# EAGLE library part PSTA-06 (library con-phoenix-350)
PSTA 1,5/XX-3,5 3.5 MM Terminal Block
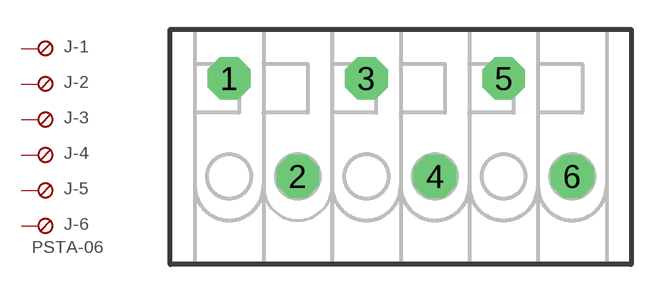
[diagram p1: symbol with the pads of PSTA-06; footprint PSTA-06]

Designator prefix J; gates -1=SKB -2=SKB -3=SKB -4=SKB -5=SKB -6=SKBU+V

## PSTA-06  [PSTA-06]
1  -1:S  pas
2  -2:S  pas
3  -3:S  pas
4  -4:S  pas
5  -5:S  pas
6  -6:S  pas

## Footprint PSTA-06 (pad centres in mm)
PTSA 1,5/6-3,5-Z 3.5mm
drill 1.016 pad 2.184 octagon: 1 -8.75,5; 2 -5.25,0; 3 -1.75,5; 4 1.75,0; 5 5.25,5; 6 8.75,0